# Altium footprint library AST0760MCTRQ.PcbLib: 3 footprints
Each footprint in its own frame and in the unit in brackets; x right, y up, seen from the top. Pads: shape width x height; smd on the part's side, far side on the other; paste and mask are expansions set on the pad; w line width, h text height; cw(c..) or ccw(c..) is an arc to the next point about the centre after c.
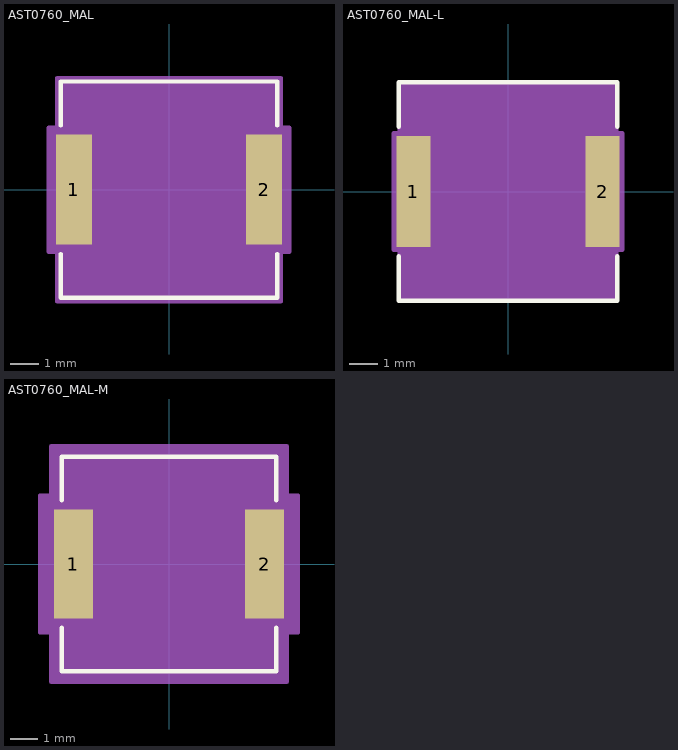
[diagram p0: the footprints below, top view; thin cyan lines are the x and y axes]

## AST0760_MAL [mil]
pads (2):
  rect 51x155 smd paste+0 mask+0: 1(-134,0) 2(134,0)
Top Overlay:
  lines w6: -152.5,-90.6 -152.5,-152.5 152.5,-152.5 152.5,-90.6 ; -152.5,90.6 -152.5,152.5 152.5,152.5 152.5,90.6
Mechanical 13:
  circle w0: c-108.5,0 r3
  lines w0: -12,147.5 ccw(c0,147.5) 12,147.5
  lines w1: -147.5,-147.5 147.5,-147.5 147.5,147.5 -147.5,147.5 -147.5,-147.5
Mechanical 15:
  region: -157.5,-87.5 -169.5,-87.5 -169.5,87.5 -157.5,87.5 -157.5,157.5 157.5,157.5 157.5,87.5 169.5,87.5 169.5,-87.5 157.5,-87.5 157.5,-157.5 -157.5,-157.5
  lines w6: -169.5,-87.5 -169.5,87.5 -157.5,87.5 -157.5,157.5 157.5,157.5 157.5,87.5 169.5,87.5 169.5,-87.5 157.5,-87.5 157.5,-157.5 -157.5,-157.5 -157.5,-87.5 -169.5,-87.5
3D body "AST0760_MAL.step": height 79.09, standoff 0, extent -147.52,-147.48 147.52,147.48

## AST0760_MAL-L [mil]
pads (2):
  rect 47x155 smd paste+0 mask+0: 1(-132,0) 2(132,0)
Top Overlay:
  lines w6: -152.5,-90.6 -152.5,-152.5 152.5,-152.5 152.5,-90.6 ; -152.5,90.6 -152.5,152.5 152.5,152.5 152.5,90.6
Mechanical 13:
  circle w0: c-108.5,0 r3
  lines w0: -12,147.5 ccw(c0,147.5) 12,147.5
  lines w1: -147.5,-147.5 147.5,-147.5 147.5,147.5 -147.5,147.5 -147.5,-147.5
Mechanical 15:
  region: -151.5,-81.5 -159.5,-81.5 -159.5,81.5 -151.5,81.5 -151.5,151.5 151.5,151.5 151.5,81.5 159.5,81.5 159.5,-81.5 151.5,-81.5 151.5,-151.5 -151.5,-151.5
  lines w6: -159.5,-81.5 -159.5,81.5 -151.5,81.5 -151.5,151.5 151.5,151.5 151.5,81.5 159.5,81.5 159.5,-81.5 151.5,-81.5 151.5,-151.5 -151.5,-151.5 -151.5,-81.5 -159.5,-81.5
3D body "AST0760_MAL.step": height 79.09, standoff 0, extent -147.52,-147.48 147.52,147.48

## AST0760_MAL-M [mil]
pads (2):
  rect 55x155 smd paste+0 mask+0: 1(-136,0) 2(136,0)
Top Overlay:
  lines w6: -152.5,-90.6 -152.5,-152.5 152.5,-152.5 152.5,-90.6 ; -152.5,90.6 -152.5,152.5 152.5,152.5 152.5,90.6
Mechanical 13:
  circle w0: c-108.5,0 r3
  lines w0: -12,147.5 ccw(c0,147.5) 12,147.5
  lines w1: -147.5,-147.5 147.5,-147.5 147.5,147.5 -147.5,147.5 -147.5,-147.5
Mechanical 15:
  region: -167.5,-97.5 -183.5,-97.5 -183.5,97.5 -167.5,97.5 -167.5,167.5 167.5,167.5 167.5,97.5 183.5,97.5 183.5,-97.5 167.5,-97.5 167.5,-167.5 -167.5,-167.5
  lines w6: -183.5,-97.5 -183.5,97.5 -167.5,97.5 -167.5,167.5 167.5,167.5 167.5,97.5 183.5,97.5 183.5,-97.5 167.5,-97.5 167.5,-167.5 -167.5,-167.5 -167.5,-97.5 -183.5,-97.5
3D body "AST0760_MAL.step": height 79.09, standoff 0, extent -147.52,-147.48 147.52,147.48